# Altium integrated library C0805C475K8PACTU(0805_4.7uF).IntLib: 1 symbol
Pins are listed as number, name and electrical type; pins without a type are passive.

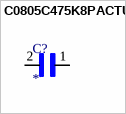
[diagram p0: symbol C0805C475K8PACTU]

## C0805C475K8PACTU
designator C?
Cap Ceramic 4.7uF 10V X5R 10% SMD 0805 85?C Plastic T/R; MP: C0805C475K8PACTU; Package: None; Price: None; Value: *; Availability: Unavailable
footprint CAPC2012X88N
pins: 1, 2